# Altium schematic symbol library PC-connector.SchLib: 8 symbols
Pins are listed as number, name and electrical type; pins without a type are passive.

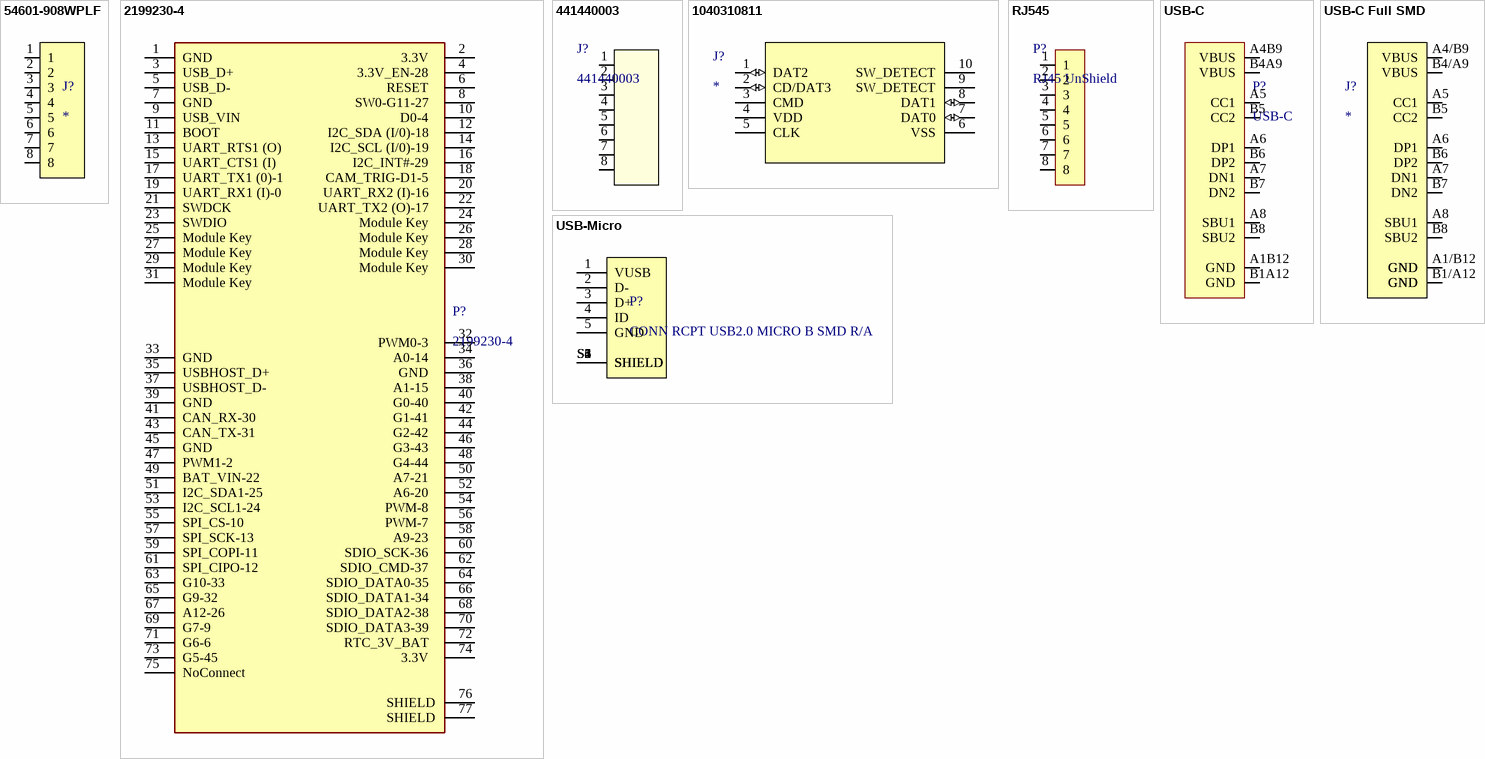
[diagram p0: symbols 54601-908WPLF to USB-Micro]

## 54601-908WPLF
designator J?
Jack Modular Connector 8p8c (RJ45, Ethernet) 90° Angle (Right) Unshielded Cat3; MF: Amphenol ICC; MP: 54601-908WPLF; Package: None; Price: None; Value: *; Availability: Unavailable
footprint AMPHENOL_54601-908WPLF
pins: 1, 2, 3, 4, 5, 6, 7, 8

## 2199230-4
designator P?
CONN M.2 FMALE 67POS 0.020 GOLD / Représentant le MicroMod Teensy; Supplier 1: Digi-Key; Supplier Part Number 1: A115904TR-ND; Mounted: Yes; Package / Case: TH; Volt: N/A
footprint CONN67_2199230_TEC
pins: 1 GND, 2 3.3V  , 3 USB_D+  , 4 3.3V_EN-28  , 5 USB_D-  , 6 RESET  , 7 GND  , 8 SW0-G11-27  , 9 USB_VIN  , 10 D0-4  , 11 BOOT  , 12 I2C_SDA (I/0)-18  , 13 UART_RTS1 (O)  , 14 I2C_SCL (I/0)-19  , 15 UART_CTS1 (I)  , 16 I2C_INT#-29  , 17 UART_TX1 (0)-1  , 18 CAM_TRIG-D1-5  , 19 UART_RX1 (I)-0  , 20 UART_RX2 (I)-16  , 21 SWDCK  , 22 UART_TX2 (O)-17  , 23 SWDIO  , 24 Module Key  , 25 Module Key  , 26 Module Key  , 27 Module Key  , 28 Module Key  , 29 Module Key  , 30 Module Key  , 31 Module Key  , 32 PWM0-3  , 33 GND, 34 A0-14  , 35 USBHOST_D+  , 36 GND  , 37 USBHOST_D-  , 38 A1-15  , 39 GND  , 40 G0-40  , 41 CAN_RX-30  , 42 G1-41  , 43 CAN_TX-31  , 44 G2-42  , 45 GND  , 46 G3-43  , 47 PWM1-2  , 48 G4-44  , 49 BAT_VIN-22  , 50 A7-21  , 51 I2C_SDA1-25  , 52 A6-20  , 53 I2C_SCL1-24  , 54 PWM-8  , 55 SPI_CS-10  , 56 PWM-7  , 57 SPI_SCK-13  , 58 A9-23  , 59 SPI_COPI-11  , 60 SDIO_SCK-36  , 61 SPI_CIPO-12  , 62 SDIO_CMD-37  , 63 G10-33  , 64 SDIO_DATA0-35  , 65 G9-32  , 66 SDIO_DATA1-34  , 67 A12-26  , 68 SDIO_DATA2-38  , 69 G7-9  , 70 SDIO_DATA3-39  , 71 G6-6  , 72 RTC_3V_BAT  , 73 G5-45  , 74 3.3V  , 75 NoConnect, 76 SHIELD, 77 SHIELD

## 441440003
designator J?
No Description Available; Mfr_Name: Molex Connector Corporation; Copyright: Copyright (C) 2024 Ultra Librarian. All rights reserved.; Manufacturer_Part_Number: 441440003; RefDes: RefDes; Type: DEV
footprint CONN_44144-0003_MOL
pins: 1, 2, 3, 4, 5, 6, 7, 8

## 1040310811
designator J?
Lecteur carte MicroSD SMD; Mfr_Name: Molex Connector Corporation; Manufacturer Part Number 1: 1040310811; RefDes: RefDes; Type: Type; JLCPCB Part Number: C585350; Supplier Part Number: WM6357CT-ND
footprint 104031-0811_MOL
pins: 1 DAT2 (io), 2 CD/DAT3 (io), 3 CMD, 4 VDD (power), 5 CLK, 6 VSS (power), 7 DAT0 (io), 8 DAT1 (io), 9 SW_DETECT, 10 SW_DETECT

## RJ545
designator P?, comment RJ45 UnShield
Jack Modular Connector 8p8c (RJ45, Ethernet) 90° Angle (Right) Unshielded Cat3; Supplier 1: Digikey; Supplier Part Number 1: 609-4616-2-ND; Mounted: Yes; Package / Case: SMD; Volt: N/A
footprint AMPHENOL_54602-908LF (RJ45)
pins: 1, 2, 3, 4, 5, 6, 7, 8

## USB-C
designator P?
TYPEC-304J-BCP16 / 5A USB 3.1 1 Type-C SMD USB Connectors; Manufacturer Part Number 1: USB4105-GF-A; Supplier 1: LCSC; Supplier Part Number 1: 2073-USB4105-GF-ACT-ND; Mounted: Yes; Package / Case: SMD; Volt: N/A
footprint USB-C
pins: A1B12 GND, A4B9 VBUS, A5 CC1, A6 DP1, A7 DN1, A8 SBU1, B1A12 GND, B4A9 VBUS, B5 CC2, B6 DP2, B7 DN2, B8 SBU2

## USB-C Full SMD
designator J?
USB-C (USB TYPE-C) USB 2.0 Receptacle Connector 24 (16+8 Dummy) Position Surface Mount, Right Angle; Manufacturer Part Number 1: USB4110GFA; MF: Global Connector Technology; SnapEDA_Link: https://www.snapeda.com/parts/USB4110GFA/Global+Connector+Technology/view-part/?ref=snap; Package: None; Value: *; Check_prices: https://www.snapeda.com/parts/USB4110GFA/Global+Connector+Technology/view-part/?ref=eda; Supplier Part Number 1: 2073-USB4110-GF-A-1-ND
footprint GCT_USB4110GFA
pins: A1/B12 GND, A4/B9 VBUS, A5 CC1, A6 DP1, A7 DN1, A8 SBU1, B1/A12 GND, B4/A9 VBUS, B5 CC2, B6 DP2, B7 DN2, B8 SBU2, S1 GND, S2 GND, S3 GND, S4 GND

## USB-Micro
designator P?, comment CONN RCPT USB2.0 MICRO B SMD R/A
USB - micro B USB 2.0 Receptacle Connector 5 Position Surface Mount, Right Angle; Through Hole; Supplier 1: Digikey; Supplier Part Number 1: 609-4616-2-ND; Mounted: Yes; Package / Case: SMD; Volt: N/A
footprint FCI_10118193-0001LF
pins: 1 VUSB, 2 D-, 3 D+, 4 ID, 5 GND, S1 SHIELD, S2 SHIELD, S3 SHIELD, S4 SHIELD, S5 SHIELD, S6 SHIELD